# EAGLE library part 87368-42_S (library con-molex-milli-grid)
RECEPTACAL
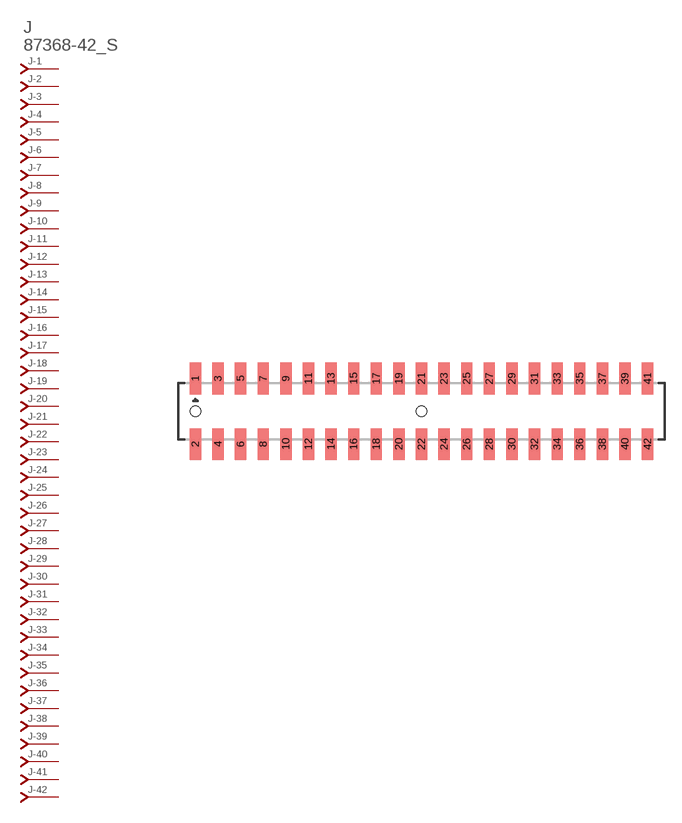
[diagram p322: symbol with the pads of 87368-42; footprint 87368-42]

Designator prefix J; gates -1=J-NV -2=J-N -3=J-N -4=J-N -5=J-N -6=J-N -7=J-N -8=J-N -9=J-N -10=J-N -11=J-N -12=J-N -13=J-N -14=J-N -15=J-N -16=J-N -17=J-N -18=J-N -19=J-N -20=J-N -21=J-N -22=J-N -23=J-N -24=J-N -25=J-N -26=J-N -27=J-N -28=J-N -29=J-N -30=J-N -31=J-N -32=J-N -33=J-N -34=J-N -35=J-N -36=J-N -37=J-N -38=J-N -39=J-N -40=J-N -41=J-N -42=J-N

## 87368-42_S  [87368-42]
1  -1:J  pas
2  -2:J  pas
3  -3:J  pas
4  -4:J  pas
5  -5:J  pas
6  -6:J  pas
7  -7:J  pas
8  -8:J  pas
9  -9:J  pas
10  -10:J  pas
11  -11:J  pas
12  -12:J  pas
13  -13:J  pas
14  -14:J  pas
15  -15:J  pas
16  -16:J  pas
17  -17:J  pas
18  -18:J  pas
19  -19:J  pas
20  -20:J  pas
21  -21:J  pas
22  -22:J  pas
23  -23:J  pas
24  -24:J  pas
25  -25:J  pas
26  -26:J  pas
27  -27:J  pas
28  -28:J  pas
29  -29:J  pas
30  -30:J  pas
31  -31:J  pas
32  -32:J  pas
33  -33:J  pas
34  -34:J  pas
35  -35:J  pas
36  -36:J  pas
37  -37:J  pas
38  -38:J  pas
39  -39:J  pas
40  -40:J  pas
41  -41:J  pas
42  -42:J  pas

## Footprint 87368-42 (pad centres in mm)
RECEPTACAL SMD Dual Row, Side Entry
smd 1 x 2.8: 1 -20,2.9; 2 -20,-2.9; 3 -18,2.9; 4 -18,-2.9; 5 -16,2.9; 6 -16,-2.9; 7 -14,2.9; 8 -14,-2.9; 9 -12,2.9; 10 -12,-2.9; 11 -10,2.9; 12 -10,-2.9; 13 -8,2.9; 14 -8,-2.9; 15 -6,2.9; 16 -6,-2.9; 17 -4,2.9; 18 -4,-2.9; 19 -2,2.9; 20 -2,-2.9; 21 0,2.9; 22 0,-2.9; 23 2,2.9; 24 2,-2.9; 25 4,2.9; 26 4,-2.9; 27 6,2.9; 28 6,-2.9; 29 8,2.9; 30 8,-2.9; 31 10,2.9; 32 10,-2.9; 33 12,2.9; 34 12,-2.9; 35 14,2.9; 36 14,-2.9; 37 16,2.9; 38 16,-2.9; 39 18,2.9; 40 18,-2.9; 41 20,2.9; 42 20,-2.9
hole 0.914 at -20,0
hole 0.914 at 0,0